# Altium footprint library Aluminum Electrolytic Capacitors.PcbLib: 3 footprints
Each footprint in its own frame and in the unit in brackets; x right, y up, seen from the top. Pads: shape width x height; smd on the part's side, far side on the other; paste and mask are expansions set on the pad; w line width, h text height; cw(c..) or ccw(c..) is an arc to the next point about the centre after c.
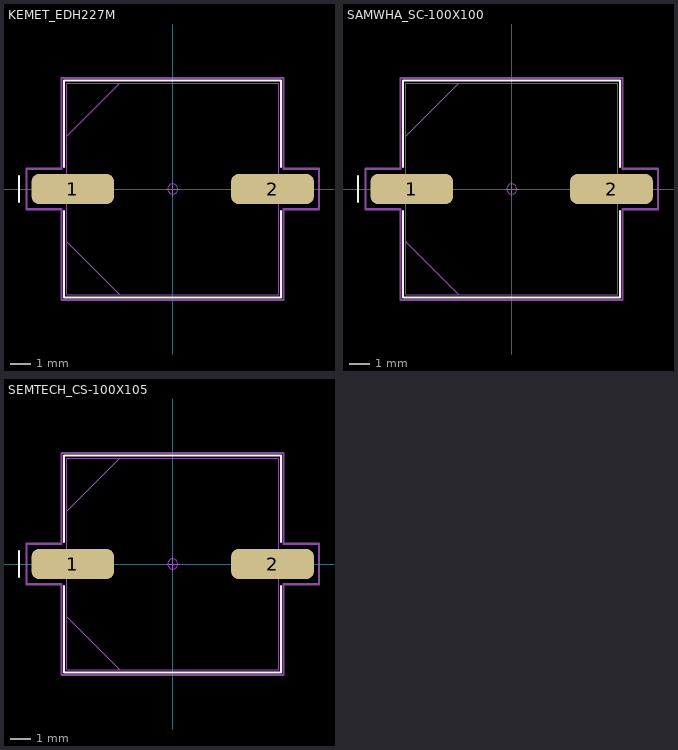
[diagram p0: the footprints below, top view; thin cyan lines are the x and y axes]

## KEMET_EDH227M [mm]
pads (2):
  rrect50% 4.1x1.5 smd mask+0.04: 1(-4.95,0) 2(4.95,0)
Top Overlay:
  lines w0.1: -7.62,-0.635 -7.62,0.635 ; -5.377,-1.083 -5.377,-5.377 5.377,-5.377 5.377,-1.083 ; -5.377,1.083 -5.377,5.377 5.377,5.377 5.377,1.083
Mechanical 13:
  circle w0: c-4.742,0 r0.076
  lines w0.025: -5.25,-2.625 -2.625,-5.25 ; -5.25,2.625 -2.625,5.25 ; -5.25,-5.25 5.25,-5.25 5.25,5.25 -5.25,5.25 -5.25,-5.25
Mechanical 15:
  circle w0.05: c0,0 r0.25
  lines w0.05: -0.35,0 0.35,0 ; 0,-0.35 0,0.35
  lines w0.1: -7.254,-1.004 -7.254,1.004 -5.504,1.004 -5.504,5.504 5.504,5.504 5.504,1.004 7.254,1.004 7.254,-1.004 5.504,-1.004 5.504,-5.504 -5.504,-5.504 -5.504,-1.004 -7.254,-1.004
3D body "EDH227M050A9PAA.step": height 10.51, standoff 0, extent -6.1,-5.25 6.1,5.25

## SAMWHA_SC-100X100 [mm]
pads (2):
  rrect50% 4.1x1.5 smd mask+0.04: 1(-4.95,0) 2(4.95,0)
Top Overlay:
  lines w0.1: -7.62,-0.635 -7.62,0.635 ; -5.377,-1.083 -5.377,-5.377 5.377,-5.377 5.377,-1.083 ; -5.377,1.083 -5.377,5.377 5.377,5.377 5.377,1.083
Mechanical 13:
  circle w0: c-4.742,0 r0.076
  lines w0.025: -5.25,-2.625 -2.625,-5.25 ; -5.25,2.625 -2.625,5.25 ; -5.25,-5.25 5.25,-5.25 5.25,5.25 -5.25,5.25 -5.25,-5.25
Mechanical 15:
  circle w0.05: c0,0 r0.25
  lines w0.05: -0.35,0 0.35,0 ; 0,-0.35 0,0.35
  lines w0.1: -7.254,-1.004 -7.254,1.004 -5.504,1.004 -5.504,5.504 5.504,5.504 5.504,1.004 7.254,1.004 7.254,-1.004 5.504,-1.004 5.504,-5.504 -5.504,-5.504 -5.504,-1.004 -7.254,-1.004
3D body "SC1V227M08010VR.step": height 10.05, standoff 0, extent -6.5,-5.25 6.5,5.25

## SEMTECH_CS-100X105 [mm]
pads (2):
  rrect50% 4.1x1.5 smd mask+0.04: 1(-4.95,0) 2(4.95,0)
Top Overlay:
  lines w0.1: -7.62,-0.635 -7.62,0.635 ; -5.377,-1.083 -5.377,-5.377 5.377,-5.377 5.377,-1.083 ; -5.377,1.083 -5.377,5.377 5.377,5.377 5.377,1.083
Mechanical 13:
  circle w0: c-4.742,0 r0.076
  lines w0.025: -5.25,-2.625 -2.625,-5.25 ; -5.25,2.625 -2.625,5.25 ; -5.25,-5.25 -5.25,5.25 5.25,5.25 5.25,-5.25 -5.25,-5.25
Mechanical 15:
  circle w0.05: c0,0 r0.25
  lines w0.05: -0.35,0 0.35,0 ; 0,-0.35 0,0.35
  lines w0.1: -7.254,-1.004 -5.504,-1.004 -5.504,-5.504 5.504,-5.504 5.504,-1.004 7.254,-1.004 7.254,1.004 5.504,1.004 5.504,5.504 -5.504,5.504 -5.504,1.004 -7.254,1.004 -7.254,-1.004
3D body "EXV-9P_KEM.step": height 10.55, standoff 0, extent -6.5,-5.25 6.5,5.25